# EAGLE library part DWARF_Z (library metraTec_OEM)
SMT ISM Transceiver module IEEE 802.15.4, onboard Antenna and optional UFL external Antenna Connector, UART Interface and 7 GPIOs 3.3V supply, low power
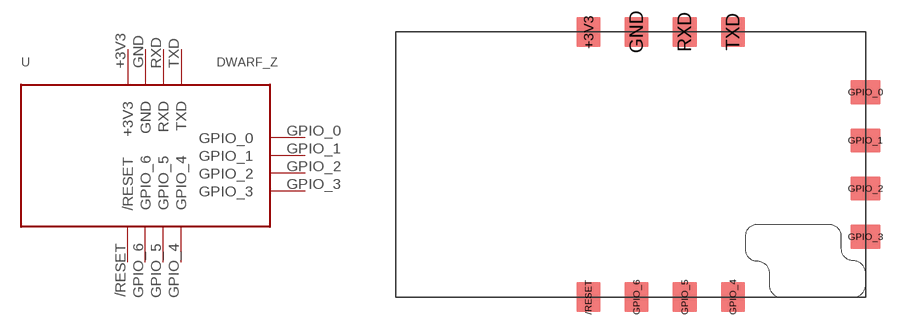
[diagram p4: symbol with the pads of DWARF_Z; footprint DWARF_Z]

Designator prefix -

## DWARF_Z  [DWARF_Z]
+3V3  +3V3
/RESET  /RESET  in
GND  GND
GPIO_0  GPIO_0
GPIO_1  GPIO_1
GPIO_2  GPIO_2
GPIO_3  GPIO_3
GPIO_4  GPIO_4
GPIO_5  GPIO_5
GPIO_6  GPIO_6
RXD  RXD  in
TXD  TXD  out

## Footprint DWARF_Z (pad centres in mm)
smd 2 x 2.5: +3V3 16,11; /RESET 16,-11; GND 20,11; GPIO_4 28,-11; GPIO_5 24,-11; GPIO_6 20,-11; RXD 24,11; TXD 28,11
smd 2.5 x 2: GPIO_0 39,6; GPIO_1 39,2; GPIO_2 39,-2; GPIO_3 39,-6